# EAGLE library part IM880B-L (library IM880B-L)
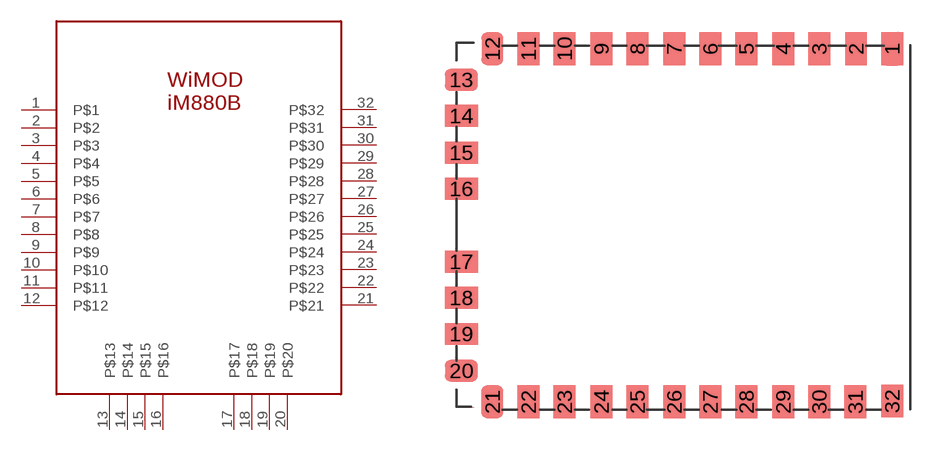
[diagram p0: symbol with the pads of IM880B-L; footprint IM880B-L]

Designator prefix U

## IM880B-L  [IM880B-L]
1  P$1  sup
2  P$2
3  P$3
4  P$4
5  P$5
6  P$6  sup
7  P$7
8  P$8
9  P$9
10  P$10
11  P$11
12  P$12
13  P$13
14  P$14
15  P$15
16  P$16
17  P$17
18  P$18
19  P$19
20  P$20
21  P$21
22  P$22
23  P$23
24  P$24
25  P$25
26  P$26
27  P$27
28  P$28
29  P$29
30  P$30
31  P$31
32  P$32

## Footprint IM880B-L (pad centres in mm)
smd 1.2 x 1.8: 1 11.589,9.049; 2 9.604,9.049; 3 7.58,9.049; 4 5.596,9.049; 5 3.572,9.049; 6 1.587,9.049; 7 -0.397,9.049; 8 -2.421,9.049; 9 -4.405,9.049; 10 -6.429,9.049; 11 -8.414,9.049; 12 -10.398,9.049; 21 -10.398,-10.358; 22 -8.414,-10.358; 23 -6.429,-10.358; 24 -4.405,-10.358; 25 -2.421,-10.358; 26 -0.397,-10.358; 27 1.587,-10.358; 28 3.572,-10.358; 29 5.596,-10.358; 30 7.58,-10.358; 31 9.565,-10.358; 32 11.589,-10.319
smd 1.8 x 1.2: 13 -12.105,7.342; 14 -12.105,5.358; 15 -12.105,3.334; 16 -12.105,1.349; 17 -12.105,-2.659; 18 -12.105,-4.643; 19 -12.105,-6.628; 20 -12.105,-8.652